# Altium schematic symbol library GY-521.SchLib: 1 symbol
Pins are listed as number, name and electrical type; pins without a type are passive.

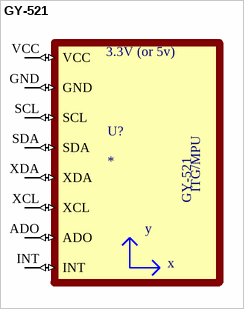
[diagram p0: symbol GY-521]

## GY-521
designator U?
Triple Axis Accelerometer Gyro Breakout; MF: GODREAM FORDREAM CO., LIMITED; MP: GY-521; SnapEDA_Link: https://www.snapeda.com/parts/GY-521/GODREAM+FORDREAM+CO.%252C+LIMITED/view-part/?ref=snap; Package: Package; Value: *; Check_prices: https://www.snapeda.com/parts/GY-521/GODREAM+FORDREAM+CO.%252C+LIMITED/view-part/?ref=eda
footprint GY-521
pins: ADO (io), GND (io), INT (io), SCL (io), SDA (io), VCC (io), XCL (io), XDA (io)
text: 3.3V (or 5v); ITG/MPU; y; x